# EAGLE library part B6B-EH-* (library jst-ph)
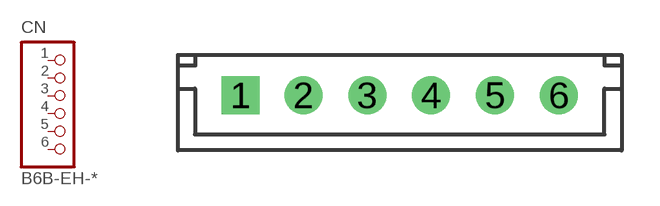
[diagram p22: symbol with the pads of B6B-EH; footprint B6B-EH]

Designator prefix CN

## B6B-EH-  [B6B-EH]
1  1  pas
2  2  pas
3  3  pas
4  4  pas
5  5  pas
6  6  pas

## Footprint B6B-EH (pad centres in mm)
drill 1 square: 1 -6.33,0
drill 1: 2 -3.83,0; 3 -1.29,0; 4 1.25,0; 5 3.79,0; 6 6.33,0